# EAGLE library part RELAY_3V_DPDT (library formula electric)
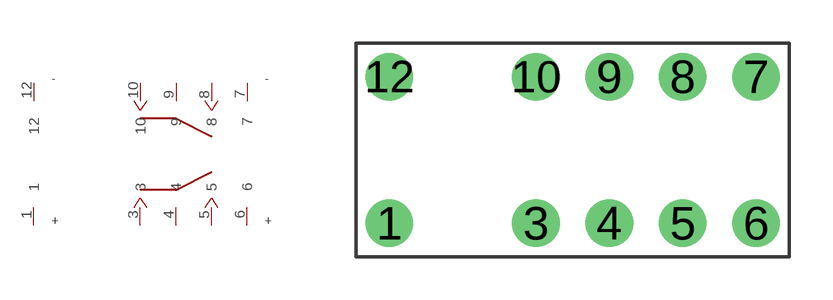
[diagram p0: symbol with the pads of RELAY_3V_DPDT; footprint RELAY_3V_DPDT]

Designator prefix -

## RELAY_3V_DPDT  [RELAY_3V_DPDT]
1  1
3  3
4  4
5  5
6  6
7  7
8  8
9  9
10  10
12  12

## Footprint RELAY_3V_DPDT (pad centres in mm)
drill 1.1: 1 -2.54,-2.54; 3 2.54,-2.54; 4 5.08,-2.54; 5 7.62,-2.54; 6 10.16,-2.54; 7 10.16,2.54; 8 7.62,2.54; 9 5.08,2.54; 10 2.54,2.54; 12 -2.54,2.54